# EAGLE library part MCP3426 (library heph_custom_comp)
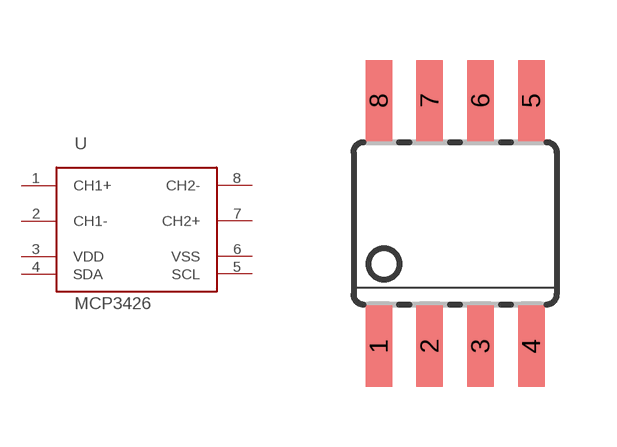
[diagram p4: symbol with the pads of SOIC-08; footprint SOIC-08]

Designator prefix -

## MCP3426  [SOIC-08]
1  CH1+
2  CH1-
3  VDD
4  SDA
5  SCL
6  VSS
7  CH2+
8  CH2-

## Footprint SOIC-08 (pad centres in mm)
smd 0.66 x 2.032: 1 -1.905,-3.073; 2 -0.635,-3.073; 3 0.635,-3.073; 4 1.905,-3.073; 5 1.905,3.073; 6 0.635,3.073; 7 -0.635,3.073; 8 -1.905,3.073